# Altium integrated library SQCSVA6R8BAT1A.IntLib: 1 symbol
Pins are listed as number, name and electrical type; pins without a type are passive.

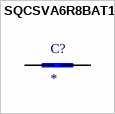
[diagram p0: symbol SQCSVA6R8BAT1A]

## SQCSVA6R8BAT1A
designator C?
Cap Ceramic 6.8pF 250V C0G 0.1pF SMD 0603 125Â°C T/R; MP: SQCSVA6R8BAT1A; Package: None; Price: None; Value: *; Availability: Unavailable
footprint CAPC1608X90
pins: 1, 2